# Altium schematic symbol library SamacSys.SchLib: 5 symbols
Pins are listed as number, name and electrical type; pins without a type are passive.

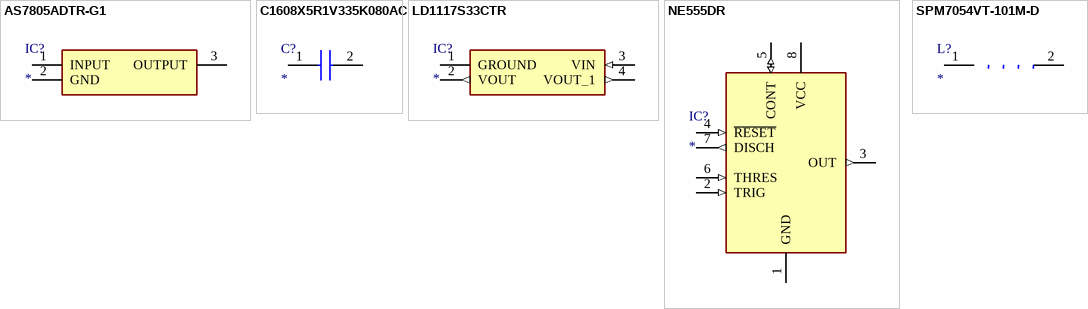
[diagram p0: symbols AS7805ADTR-G1 to SPM7054VT-101M-D]

## AS7805ADTR-G1
designator IC?
Integrated Circuit; Manufacturer_Name: Diodes Inc.; Manufacturer_Part_Number: AS7805ADTR-G1; Description: Linear Voltage Regulators 1A 3-Term POS Reg Output 1A; Datasheet Link: https://www.diodes.com/assets/Datasheets/AS78XXA.pdf; Height: 2mm; Mouser Part Number: 621-AS7805ADTR-G1; Mouser Price/Stock: https://www.mouser.com/Search/Refine.aspx?Keyword=621-AS7805ADTR-G1
footprint ZLDO1117K50TC
pins: 1 INPUT, 2 GND, 3 OUTPUT

## C1608X5R1V335K080AC
designator C?
Capacitor; Manufacturer_Name: TDK; Manufacturer_Part_Number: C1608X5R1V335K080AC; Datasheet Link: https://product.tdk.com/info/en/catalog/datasheets/mlcc_commercial_midvoltage_en.pdf; Height: 0.8mm; Mouser Part Number: 810-C1608X5R1V335KAC; Mouser Price/Stock: https://www.mouser.com/Search/Refine.aspx?Keyword=810-C1608X5R1V335KAC
footprint CAPC1608X80N
pins: 1, 2

## LD1117S33CTR
designator IC?
Integrated Circuit; Manufacturer_Name: STMicroelectronics; Description: LD1117S33CTR; Allied_Number: 70390200; Datasheet Link: http://www.st.com/st-web-ui/static/active/en/resource/technical/document/datasheet/CD00000544.pdf; Height: 1.9mm; Manufacturer_Part_Number: LD1117S33CTR; Mouser Part Number: 511-LD1117S33C; Mouser Price/Stock: https://www.mouser.com/Search/Refine.aspx?Keyword=511-LD1117S33C; RS Part Number: 1657750; RS Price/Stock: http://uk.rs-online.com/web/p/products/1657750; Allied Price/Stock: http://www.alliedelec.com/stmicroelectronics-ld1117s33ctr/70390200/
footprint SOT230P700X190-4N
pins: 1 GROUND, 2 VOUT (out), 3 VIN (in), 4 VOUT_1 (out)

## NE555DR
designator IC?
Integrated Circuit; Manufacturer_Name: Texas Instruments; Manufacturer_Part_Number: NE555DR; Datasheet Link: http://www.ti.com/lit/ds/symlink/ne555.pdf; Height: 1.75mm; Mouser Part Number: 595-NE555DR; Mouser Price/Stock: https://www.mouser.com/Search/Refine.aspx?Keyword=595-NE555DR; RS Part Number: 1218414; RS Price/Stock: http://uk.rs-online.com/web/p/products/1218414
footprint SOIC127P600X175-8N
pins: 1 GND (power), 2 TRIG (in), 3 OUT (out), 4 ~{RESET} (in), 5 CONT (io), 6 THRES (in), 7 DISCH (out), 8 VCC (power)

## SPM7054VT-101M-D
designator L?
Inductor; Manufacturer_Name: TDK; Manufacturer_Part_Number: SPM7054VT-101M-D; Datasheet Link: https://product.tdk.com/info/en/catalog/datasheets/inductor_automotive_power_spm7054vt-d_en.pdf; Height: 5.4mm; Mouser Part Number: 810-SPM7054VT-101M-D; Mouser Price/Stock: https://www.mouser.com/Search/Refine.aspx?Keyword=810-SPM7054VT-101M-D
footprint INDPM7570X540N
pins: 1, 2